# Altium footprint library DM0255.PcbLib: 8 footprints
Each footprint in its own frame and in the unit in brackets; x right, y up, seen from the top. Pads: shape width x height; smd on the part's side, far side on the other; paste and mask are expansions set on the pad; w line width, h text height; cw(c..) or ccw(c..) is an arc to the next point about the centre after c.
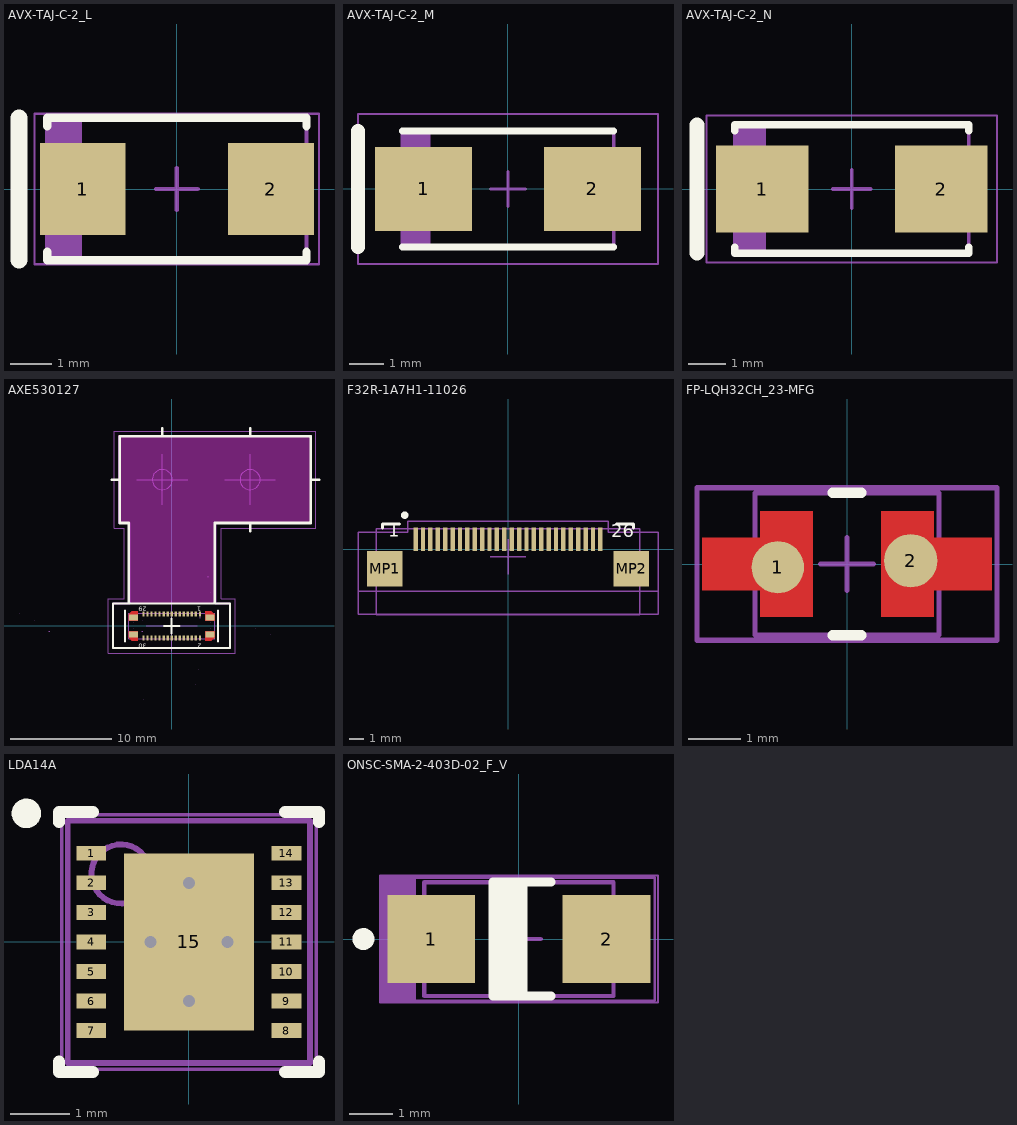
[diagram p0: the footprints below, top view; thin cyan lines are the x and y axes]

## AVX-TAJ-C-2_L [mm] "Molded Capacitor, 2-Leads, Body 6.2x3.4mm, IPC High Density"
height 2.8
pads (2):
  rect 2.05x2.2 smd: 1(-2.25,0) 2(2.25,0)
Top Overlay:
  lines w0.2: -3.1,-1.5 -3.1,-1.7 3.1,-1.7 3.1,-1.5 ; -3.1,1.5 -3.1,1.7 3.1,1.7 3.1,1.5
  lines w0.4: -3.775,-1.7 -3.775,1.7
Top Assembly:
  rectangle: -3.1,-1.7 -2.266,1.7
  lines w0.1: -3.1,-1.7 3.1,-1.7 3.1,1.7 -3.1,1.7 -3.1,-1.7
  text ".Designator" at 0,0 h1
Top Courtyard (Mech15):
  lines w0.05: -3.4,-1.8 -3.4,1.8 3.4,1.8 3.4,-1.8 -3.4,-1.8
  lines w0.1: -0.5,0 0.5,0 ; 0,-0.5 0,0.5
Top Component Outline (Mech31):
  lines w0.1: -3.1,-1.7 3.1,-1.7 3.1,1.7 -3.1,1.7 -3.1,-1.7
3D body "CAPMP6032X28L.step": height 2.8, standoff 0, extent -3.32,-1.7 3.32,1.7

## AVX-TAJ-C-2_M [mm] "Molded Capacitor, 2-Leads, Body 6.2x3.4mm, IPC Low Density"
height 2.8
pads (2):
  rect 2.85x2.45 smd: 1(-2.475,0) 2(2.475,0)
Top Overlay:
  lines w0.2: -3.1,-1.7 3.1,-1.7 ; -3.1,1.7 3.1,1.7
  lines w0.4: -4.4,-1.7 -4.4,1.7
Top Assembly:
  rectangle: -3.1,-1.7 -2.266,1.7
  lines w0.1: -3.1,-1.7 3.1,-1.7 3.1,1.7 -3.1,1.7 -3.1,-1.7
  text ".Designator" at 0,0 h1
Top Courtyard (Mech15):
  lines w0.05: -4.4,-2.2 -4.4,2.2 4.4,2.2 4.4,-2.2 -4.4,-2.2
  lines w0.1: -0.5,0 0.5,0 ; 0,-0.5 0,0.5
Top Component Outline (Mech31):
  lines w0.1: -3.1,-1.7 3.1,-1.7 3.1,1.7 -3.1,1.7 -3.1,-1.7
3D body "CAPMP6032X28M.step": height 2.8, standoff 0, extent -3.32,-1.7 3.32,1.7

## AVX-TAJ-C-2_N [mm] "Molded Capacitor, 2-Leads, Body 6.2x3.4mm, IPC Medium Density"
height 2.8
pads (2):
  rect 2.45x2.3 smd: 1(-2.375,0) 2(2.375,0)
Top Overlay:
  lines w0.2: -3.1,-1.55 -3.1,-1.7 3.1,-1.7 3.1,-1.55 ; -3.1,1.55 -3.1,1.7 3.1,1.7 3.1,1.55
  lines w0.4: -4.1,-1.7 -4.1,1.7
Top Assembly:
  rectangle: -3.1,-1.7 -2.266,1.7
  lines w0.1: -3.1,-1.7 -3.1,1.7 3.1,1.7 3.1,-1.7 -3.1,-1.7
  text ".Designator" at 0,0 h1
Top Courtyard (Mech15):
  lines w0.05: -3.85,-1.95 -3.85,1.95 3.85,1.95 3.85,-1.95 -3.85,-1.95
  lines w0.1: -0.5,0 0.5,0 ; 0,-0.5 0,0.5
Top Component Outline (Mech31):
  lines w0.1: -3.1,-1.7 3.1,-1.7 3.1,1.7 -3.1,1.7 -3.1,-1.7
3D body "CAPMP6032X28N.step": height 2.8, standoff 0, extent -3.32,-1.7 3.32,1.7

## AXE530127 [mm]
pads (34):
  rect 0.23x0.5 smd paste-110: 1(2.8,1.2) 3(2.4,1.2) 4(2.4,-1.2) 5(2,1.2) 6(2,-1.2) 7(1.6,1.2) 8(1.6,-1.2) 9(1.2,1.2) 10(1.2,-1.2) 11(0.8,1.2) 12(0.8,-1.2) 13(0.4,1.2) 14(0.4,-1.2) 15(0,1.2) 16(0,-1.2) 17(-0.4,1.2) 18(-0.4,-1.2) 19(-0.8,1.2) 20(-0.8,-1.2) 21(-1.2,1.2) 22(-1.2,-1.2) 23(-1.6,1.2) 24(-1.6,-1.2) 25(-2,1.2) 26(-2,-1.2) 27(-2.4,1.2) 28(-2.4,-1.2) 29(-2.8,1.2) 30(-2.8,-1.2)
  rect 0.23x0.5 smd paste-110 mask+0.102: 2(2.8,-1.2)
  rect 0.9x0.62 smd paste-100 mask-100: 31(3.795,-0.84) 32(-3.795,-0.84) 33(3.795,0.84) 34(-3.795,0.84)
Top Layer:
  region: 4.245,1.15 3.945,1.45 3.345,1.45 3.345,0.53 4.245,0.53
  region: 4.245,-1.15 3.945,-1.45 3.345,-1.45 3.345,-0.53 4.245,-0.53
  region: -4.245,-1.15 -3.945,-1.45 -3.345,-1.45 -3.345,-0.53 -4.245,-0.53
  region: -4.245,1.15 -3.945,1.45 -3.345,1.45 -3.345,0.53 -4.245,0.53
Top Layer keep-out:
  rectangle: -4.3,2.2 4.2,10.2
  region: -5.13,18.8 13.8,18.8 13.8,10.2 -5.13,10.2
Top Overlay:
  lines w0.2: -4.605,-1.53 -4.605,1.53 ; -0.75,0 0,0 ; 0,-0.75 0,0 ; 0,0.75 0,0 ; 0.75,0 0,0 ; 4.605,-1.53 4.605,1.53 ; -5.8,-2.2 5.8,-2.2 5.8,2.2 -5.8,2.2 -5.8,-2.2
  lines w0.25: -5.93,14.5 -5.13,14.5 ; -4.25,2.25 -4.25,10.2 -5.13,10.2 -5.13,18.8 13.8,18.8 13.8,10.2 4.25,10.2 4.25,2.25 ; -0.93,18.8 -0.93,19.6 ; 7.77,9.4 7.77,10.2 ; 7.77,18.8 7.77,19.6 ; 13.8,14.5 14.6,14.5
  text "1" at 2.952,2.081 h0.8
  text "2" at 2.982,-1.578 h0.8
  text "29" at -2.452,2.081 h0.8
  text "30" at -2.451,-1.587 h0.8
Top Paste:
  region: -2.7,-1.05 -2.9,-1.05 -2.9,-1.45 -2.7,-1.45
  region: -2.3,-1.05 -2.5,-1.05 -2.5,-1.45 -2.3,-1.45
  region: -1.9,-1.05 -2.1,-1.05 -2.1,-1.45 -1.9,-1.45
  region: -1.5,-1.05 -1.7,-1.05 -1.7,-1.45 -1.5,-1.45
  region: -1.1,-1.05 -1.3,-1.05 -1.3,-1.45 -1.1,-1.45
  region: -0.7,-1.05 -0.9,-1.05 -0.9,-1.45 -0.7,-1.45
  region: -0.3,-1.05 -0.5,-1.05 -0.5,-1.45 -0.3,-1.45
  region: 0.1,-1.05 -0.1,-1.05 -0.1,-1.45 0.1,-1.45
  region: 0.5,-1.05 0.3,-1.05 0.3,-1.45 0.5,-1.45
  region: 0.9,-1.05 0.7,-1.05 0.7,-1.45 0.9,-1.45
  region: 1.3,-1.05 1.1,-1.05 1.1,-1.45 1.3,-1.45
  region: 1.7,-1.05 1.5,-1.05 1.5,-1.45 1.7,-1.45
  region: 2.1,-1.05 1.9,-1.05 1.9,-1.45 2.1,-1.45
  region: 2.5,-1.05 2.3,-1.05 2.3,-1.45 2.5,-1.45
  region: 2.9,-1.05 2.7,-1.05 2.7,-1.45 2.9,-1.45
  region: -2.7,1.45 -2.9,1.45 -2.9,1.05 -2.7,1.05
  region: -2.3,1.45 -2.5,1.45 -2.5,1.05 -2.3,1.05
  region: -1.9,1.45 -2.1,1.45 -2.1,1.05 -1.9,1.05
  region: -1.5,1.45 -1.7,1.45 -1.7,1.05 -1.5,1.05
  region: -1.1,1.45 -1.3,1.45 -1.3,1.05 -1.1,1.05
  region: -0.7,1.45 -0.9,1.45 -0.9,1.05 -0.7,1.05
  region: -0.3,1.45 -0.5,1.45 -0.5,1.05 -0.3,1.05
  region: 0.1,1.45 -0.1,1.45 -0.1,1.05 0.1,1.05
  region: 0.5,1.45 0.3,1.45 0.3,1.05 0.5,1.05
  region: 0.9,1.45 0.7,1.45 0.7,1.05 0.9,1.05
  region: 1.3,1.45 1.1,1.45 1.1,1.05 1.3,1.05
  region: 1.7,1.45 1.5,1.45 1.5,1.05 1.7,1.05
  region: 2.1,1.45 1.9,1.45 1.9,1.05 2.1,1.05
  region: 2.5,1.45 2.3,1.45 2.3,1.05 2.5,1.05
  region: 2.9,1.45 2.7,1.45 2.7,1.05 2.9,1.05
  region: 4.245,0.68 3.345,0.68 3.345,1.45 3.945,1.45 4.245,1.15
  region: 4.245,-0.68 3.345,-0.68 3.345,-1.45 3.945,-1.45 4.245,-1.15
  region: -4.245,-0.68 -3.345,-0.68 -3.345,-1.45 -3.945,-1.45 -4.245,-1.15
  region: -4.245,0.68 -3.345,0.68 -3.345,1.45 -3.945,1.45 -4.245,1.15
Top Assembly:
  lines w0.1: 2.773,0.838 cw(c2.798,0.838) 2.794,0.813 ; -4.275,-1.27 -4.275,1.28 4.265,1.28 4.265,-1.27 -4.275,-1.27
  text "'.Designator'" at 0,-0.1 h1.52
Bottom Assembly:
  circle w0.006: c-3.602,1.199 r0.003
  circle w0.006: c3.598,1.199 r0.003
  circle w0.006: c3.598,4.859 r0.003
  circle w0.006: c2.798,-1.449 r0.003
  circle w0.006: c-2.802,-1.449 r0.003
  circle w0.006: c-2.917,-1.199 r0.003
  circle w0.006: c-2.917,1.201 r0.003
  circle w0.006: c-15.128,1.201 r0.003
  circle w0.006: c-2.917,-0.549 r0.003
  circle w0.006: c-2.917,0.551 r0.003
  circle w0.006: c-13.628,0.551 r0.003
  circle w0.006: c-2.917,-1.199 r0.003
  circle w0.006: c-2.917,-0.549 r0.003
  circle w0.006: c-12.128,-0.549 r0.003
  circle w0.006: c3.823,0.831 r0.003
  circle w0.006: c3.823,-0.829 r0.003
  circle w0.006: c3.823,0.301 r0.003
  circle w0.006: c3.823,-0.299 r0.003
  circle w0.006: c3.373,0.831 r0.003
  circle w0.006: c3.823,0.831 r0.003
  circle w0.006: c3.823,3.359 r0.003
  circle w0.006: c2.798,-1.449 r0.003
  circle w0.006: c2.398,-1.449 r0.003
  circle w0.006: c2.913,-1.199 r0.003
  circle w0.006: c2.683,-1.199 r0.003
  circle w0.006: c9.823,-0.829 r0.003
  circle w0.006: c8.323,-0.299 r0.003
  circle w0.006: c-2.802,-7.321 r0.003
  circle w0.006: c2.398,-5.821 r0.003
  circle w0.006: c2.683,-4.321 r0.003
  circle w0.006: c3.598,-1.199 r0.003
  circle w0.006: c3.823,-0.831 r0.003
  circle w0.006: c3.823,-0.301 r0.003
  circle w0.006: c3.373,-0.831 r0.003
  circle w0.006: c3.823,-0.831 r0.003
  circle w0.006: c-3.598,-1.199 r0.003
  circle w0.006: c-3.823,-0.831 r0.003
  circle w0.006: c-3.823,-0.301 r0.003
  circle w0.006: c-3.373,-0.831 r0.003
  circle w0.006: c-3.823,-0.831 r0.003
  circle w0.006: c-3.598,1.199 r0.003
  circle w0.006: c-3.823,0.831 r0.003
  circle w0.006: c-3.823,0.301 r0.003
  circle w0.006: c-3.373,0.831 r0.003
  circle w0.006: c-3.823,0.831 r0.003
Top Courtyard (Mech15):
  circle w0.1: c-0.93,14.5 r1
  circle w0.1: c7.771,14.5 r1
  lines w0.05: -4.25,-1.272 -4.25,1.262 4.255,1.262 4.255,-1.272 -4.25,-1.272
  lines w0.1: -3.44,14.5 1.58,14.5 ; -2.51,0 2.51,0 ; -0.93,12 -0.93,17 ; -0.5,0 0.5,0 ; 0,-2.5 0,2.5 ; 0,-0.5 0,0.5 ; 5.261,14.5 10.281,14.5 10.281,14.5 ; 7.77,12 7.77,17 ; 1.58,14.5 1.58,14.5 ; -6.3,-2.7 -6.3,2.7 -4.7,2.7 -4.7,9.7 -5.7,9.7 -5.7,19.3 14.3,19.3 14.3,9.7 4.9,9.7 4.9,2.7 6.3,2.7 6.3,-2.7 -6.3,-2.7
Top Component Outline (Mech31):
  lines w0.2: -5.8,-2.2 5.8,-2.2 ; -5.8,-2.2 -5.8,2.2 -4.2,2.2 -4.2,10.2 -5.2,10.2 -5.2,18.801 13.8,18.801 13.8,10.2 4.339,10.2 4.339,2.2 5.8,2.2 5.8,-2.2 ; -5.8,-2.2 5.8,-2.2
3D body "mtp005(6)-0428_asm.stp": height 8.56, standoff 0.23, extent -5.7,-2.2 13.825,18.8
3D body "axe530127.step": height 0.77, standoff 0, extent -4.25,-1.25 4.25,1.25

## F32R-1A7H1-11026 [mm] "26pin Molex FFC 0.5mm Bottom"
height 1.2
pads (28):
  rect 0.3x1.6 smd: 1(-6.25,0.675) 2(-5.75,0.675) 3(-5.25,0.675) 4(-4.75,0.675) 5(-4.25,0.675) 6(-3.75,0.675) 7(-3.25,0.675) 8(-2.75,0.675) 9(-2.25,0.675) 10(-1.75,0.675) 11(-1.25,0.675) 12(-0.75,0.675) 13(-0.25,0.675) 14(0.25,0.675) 15(0.75,0.675) 16(1.25,0.675) 17(1.75,0.675) 18(2.25,0.675) 19(2.75,0.675) 20(3.25,0.675) 21(3.75,0.675) 22(4.25,0.675) 23(4.75,0.675) 24(5.25,0.675) 25(5.75,0.675) 26(6.25,0.675)
  rect 2.4x2.4 smd: MP1(-8.35,-1.325) MP2(8.35,-1.325)
Top Overlay:
  circle w0.25: c-6.986,2.311 r0.125
  lines w0.2: -8.485,1.451 -8.485,1.705 -7.342,1.705 ; 7.342,1.705 8.485,1.705 8.485,1.451
  text "26" at 7,0.5 h1.52
  text "1" at -8.1,0.55 h1.52
Top Assembly:
  lines w0.1: -10.15,-4.394 -10.15,1.143 -6.771,1.143 -6.771,1.886 6.772,1.886 6.772,1.143 10.15,1.143 10.15,-4.394 -10.15,-4.394
  text "'.Designator'" at -3.302,-1.321 h1.52
Top Courtyard (Mech15):
  lines w0.1: -10.15,-2.83 10.15,-2.83 ; -1.2,-0.5 0,-0.5 ; 0,-1.7 0,-0.5 ; 0,0.7 0,-0.5 ; 1.2,-0.5 0,-0.5 ; 6.76,1.886 -6.771,1.886 -6.771,1.143 -10.15,1.143 -10.15,-4.394 10.15,-4.394 10.15,1.143 6.771,1.143 6.771,1.885
Top Component Outline (Mech31):
  lines w0.1: -8.9,-4.42 -8.9,1.397 8.9,1.397 8.9,-4.42 -8.9,-4.42
3D body "f32r_26pin_asm.stp": height 2.08, standoff -0.02, extent -10.156,-4.475 10.144,1.025

## FP-LQH32CH_23-MFG [mm] "Chip Inductor, 2-Leads, Body 2.40x2.00mm, IPC High Density"
height 1.2
pads (2):
  round 0.995 smd paste+0 mask+0: 1(-1.312,-0.062)
  round 1.012 smd paste+0 mask+0: 2(1.212,0.062)
Top Layer:
  region: 0.65,-1 0.65,1 1.65,1 1.65,0.5 2.75,0.5 2.75,-0.5 1.65,-0.5 1.65,-1
  region: -1.65,-1 -1.65,-0.5 -2.75,-0.5 -2.75,0.5 -1.65,0.5 -1.65,1 -0.65,1 -0.65,-1
Top Overlay:
  lines w0.2: -0.275,-1.35 0.275,-1.35 ; -0.275,1.35 0.275,1.35
Top Assembly:
  lines w0.05: -2.85,-1.45 -2.85,1.45 2.85,1.45 2.85,-1.45 -2.85,-1.45
  text ".Designator" at -2.286,-0.32 h1
Top Courtyard (Mech15):
  lines w0.1: -0.5,0 0.5,0 ; 0,-0.5 0,0.5 ; -2.85,-1.45 -2.85,1.45 2.85,1.45 2.85,-1.45 -2.85,-1.45
Top Component Outline (Mech31):
  lines w0.1: -1.75,-1.35 1.75,-1.35 1.75,1.35 -1.75,1.35 -1.75,-1.35
3D body "Ind_Murata_LQH32CN471K23L_eec.STEP": height 0.25, standoff 0, extent -2.85,-1.45 2.85,1.45

## LDA14A [mm] "PSON, 14-Leads, Body 4x4mm, Pitch 0.5mm, NSC Recommended"
height 0.8
pads (15):
  rect 0.5x0.25 smd paste-0.125 mask+0.051: 1(-1.65,1.5) 2(-1.65,1) 3(-1.65,0.5) 4(-1.65,0) 5(-1.65,-0.5) 6(-1.65,-1) 7(-1.65,-1.5) 8(1.65,-1.5) 9(1.65,-1) 10(1.65,-0.5) 11(1.65,0) 12(1.65,0.5) 13(1.65,1) 14(1.65,1.5)
  rect 2.2x3 smd paste-1.3 mask+0.051: 15(0,0)
via 0,1 diameter 0.51 hole 0.2
via 0,-1 diameter 0.51 hole 0.2
via -0.65,0 diameter 0.51 hole 0.2
via 0.65,0 diameter 0.51 hole 0.2
Top Overlay:
  circle w0.25: c-2.75,2.175 r0.125
  lines w0.2: -2.2,-2.025 -2.2,-2.2 -1.625,-2.2 ; -2.2,2.025 -2.2,2.2 -1.625,2.2 ; 1.625,-2.2 2.2,-2.2 2.2,-2.025 ; 1.625,2.2 2.2,2.2 2.2,2.025
Top Paste:
  rectangle: -1,0.1 -0.1,1.4
  rectangle: -1,-1.4 -0.1,-0.1
  region: 1,-0.1 0.1,-0.1 0.1,-1.4 1,-1.4
  region: 1,1.4 0.1,1.4 0.1,0.1 1,0.1
  rectangle: 1.5,1.375 2,1.625
  rectangle: 1.5,0.875 2,1.125
  rectangle: 1.5,0.375 2,0.625
  rectangle: 1.5,-0.125 2,0.125
  rectangle: 1.5,-0.625 2,-0.375
  rectangle: 1.5,-1.125 2,-0.875
  rectangle: 1.5,-1.625 2,-1.375
  region: -1.5,-1.375 -2,-1.375 -2,-1.625 -1.5,-1.625
  region: -1.5,-0.875 -2,-0.875 -2,-1.125 -1.5,-1.125
  region: -1.5,-0.375 -2,-0.375 -2,-0.625 -1.5,-0.625
  region: -1.5,0.125 -2,0.125 -2,-0.125 -1.5,-0.125
  region: -1.5,0.625 -2,0.625 -2,0.375 -1.5,0.375
  region: -1.5,1.125 -2,1.125 -2,0.875 -1.5,0.875
  region: -1.5,1.625 -2,1.625 -2,1.375 -1.5,1.375
Top Assembly:
  lines w0.05: -2.159,-2.159 2.159,-2.159 2.159,2.159 -2.159,2.159 -2.159,-2.159
  text ".Designator" at -2.032,-0.32 h1
Top Courtyard (Mech15):
  lines w0.05: -2.15,-2.15 -2.15,2.15 2.15,2.15 2.15,-2.15 -2.15,-2.15
  lines w0.1: -0.5,0 0.5,0 ; 0,-0.5 0,0.5
Top Component Outline (Mech31):
  circle w0.1: c-1.15,1.15 r0.5
  lines w0.1: -2.05,-2.05 -2.05,2.05 2.05,2.05 2.05,-2.05 -2.05,-2.05
3D body: height 0.8, standoff 0, extent -2.049,-2.049 2.049,2.049

## ONSC-SMA-2-403D-02_F_V [mm] "Molded, 2-Leads, Body 4.32x2.6mm"
height 2.2
pads (2):
  rect 2x2 smd: 1(-2,0) 2(2,0)
Top Overlay:
  circle w0.25: c-3.55,0 r0.125
  rectangle: -0.578,-1.301 0.2,1.299
  lines w0.2: 0.736,-1.3 -0.6,-1.3 -0.6,1.3 ; 0.736,1.3 -0.6,1.3 ; -0.6,1.3 -0.6,1.3
Top Assembly:
  rectangle: -3.185,-1.456 -2.351,1.458
  lines w0.05: -3.175,-1.45 3.175,-1.45 3.175,1.45 -3.175,1.45 -3.175,-1.45
  text ".Designator" at -2.286,-0.32 h1
Top Courtyard (Mech15):
  lines w0.05: -3.1,-1.4 -3.1,1.4 3.1,1.4 3.1,-1.4 -3.1,-1.4
  lines w0.1: -0.5,0 0.5,0 ; 0,-0.5 0,0.5
Top Component Outline (Mech31):
  lines w0.1: -2.16,-1.3 2.16,-1.3 2.16,1.3 -2.16,1.3 -2.16,-1.3
3D body: height 2.2, standoff 0.05, extent -2.16,-1.3 2.16,1.3